# Altium footprint library PCB - CONNECTOR - HIROSE - HIROSE DF12A 3.0-14DS-0.5V 81.PcbLib: 1 footprints
Each footprint in its own frame and in the unit in brackets; x right, y up, seen from the top. Pads: shape width x height; smd on the part's side, far side on the other; paste and mask are expansions set on the pad; w line width, h text height; cw(c..) or ccw(c..) is an arc to the next point about the centre after c.
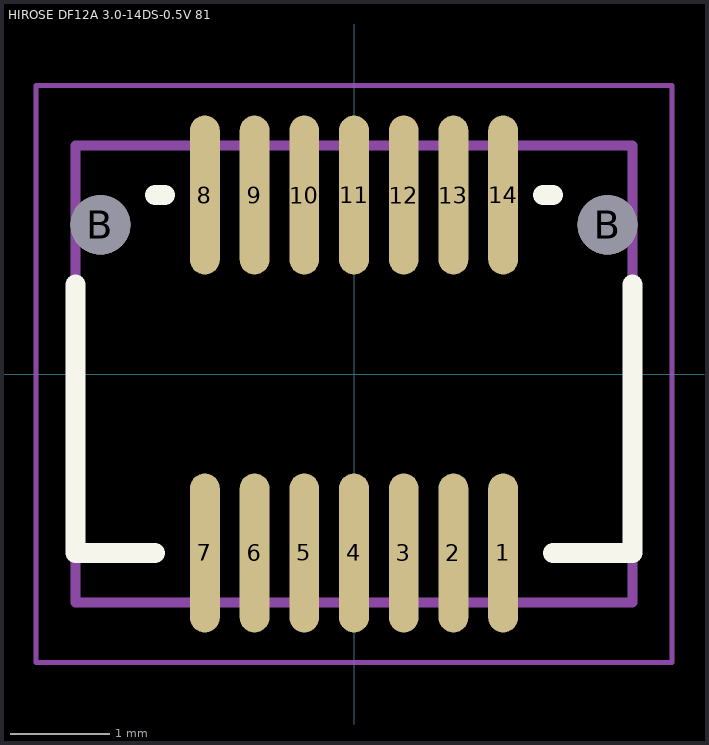
[diagram p0: the footprint, top view; thin cyan lines are the x and y axes]

## HIROSE DF12A 3.0-14DS-0.5V 81 [mm] "14 Position Connector Receptacle, 0.50mm Pitch,5.60x3.60mm Body"
height 2.2
pads (16):
  oval 0.3x1.6 smd: 1(1.5,-1.8) 2(1,-1.8) 3(0.5,-1.8) 4(0,-1.8) 5(-0.5,-1.8) 6(-1,-1.8) 7(-1.5,-1.8) 8(-1.5,1.8) 9(-1,1.8) 10(-0.5,1.8) 11(0,1.8) 12(0.5,1.8) 13(1,1.8) 14(1.5,1.8)
  round 0.6 hole 0.6 unplated: B(-2.55,1.5) B(2.55,1.5)
Top Overlay:
  lines w0.2: -2.8,0.9 -2.8,-1.8 -2,-1.8 ; -2,1.8 -1.9,1.8 ; 1.9,1.8 2,1.8 ; 2,-1.8 2.8,-1.8 2.8,0.9
Mechanical 13:
  lines w0.1: -2.8,-2.3 2.8,-2.3 2.8,2.3 -2.8,2.3 -2.8,-2.3
Mechanical 15:
  lines w0.05: -3.2,-2.9 3.2,-2.9 3.2,2.9 -3.2,2.9 -3.2,-2.9
3D body "Hirose - DF12A(3.0)-14DS-0.5V(81) v3.step": height 2.2, standoff -0.6, extent -2.8,-2.3 2.8,2.3